# Altium footprint library RF_TRANSCEIVER_MODULES_AND_MODEMS.PcbLib: 1 footprints
Each footprint in its own frame and in the unit in brackets; x right, y up, seen from the top. Pads: shape width x height; smd on the part's side, far side on the other; paste and mask are expansions set on the pad; w line width, h text height; cw(c..) or ccw(c..) is an arc to the next point about the centre after c.
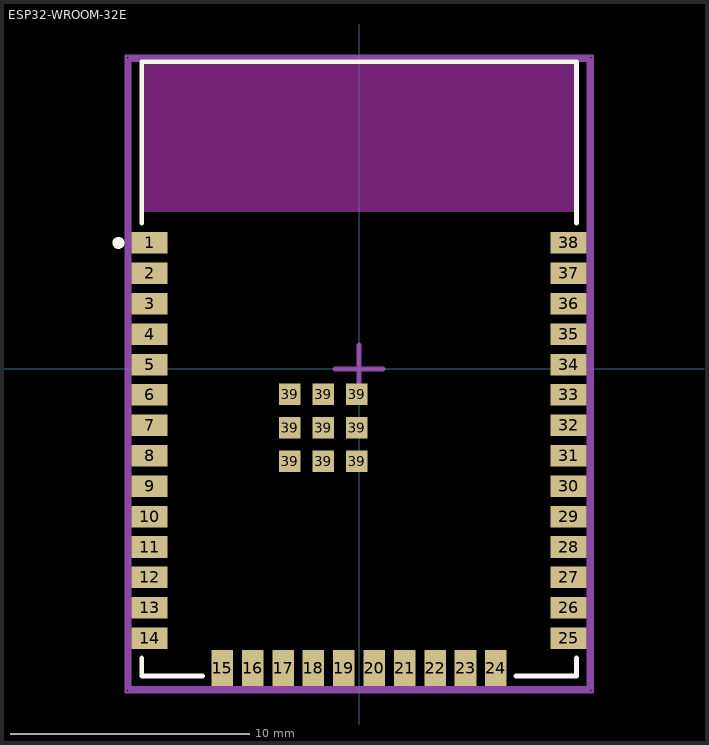
[diagram p0: the footprint, top view; thin cyan lines are the x and y axes]

## ESP32-WROOM-32E [mm] "Rx Txrx Mod Wifi Trace Ant SMD"
pads (47):
  rect 1.5x0.9 smd paste+0 mask+0: 1(-8.75,5.26) 2(-8.75,3.99) 3(-8.75,2.72) 4(-8.75,1.45) 5(-8.75,0.18) 6(-8.75,-1.09) 7(-8.75,-2.36) 8(-8.75,-3.63) 9(-8.75,-4.9) 10(-8.75,-6.17) 11(-8.75,-7.44) 12(-8.75,-8.71) 13(-8.75,-9.98) 14(-8.75,-11.25) 25(8.75,-11.25) 26(8.75,-9.98) 27(8.75,-8.71) 28(8.75,-7.44) 29(8.75,-6.17) 30(8.75,-4.9) 31(8.75,-3.63) 32(8.75,-2.36) 33(8.75,-1.09) 34(8.75,0.18) 35(8.75,1.45) 36(8.75,2.72) 37(8.75,3.99) 38(8.75,5.26)
  rect 0.9x1.5 smd paste+0 mask+0: 15(-5.715,-12.5) 16(-4.445,-12.5) 17(-3.175,-12.5) 18(-1.905,-12.5) 19(-0.635,-12.5) 20(0.635,-12.5) 21(1.905,-12.5) 22(3.175,-12.5) 23(4.445,-12.5) 24(5.715,-12.5)
  rect 0.9x0.9 smd paste+0 mask+0: 39(-2.9,-3.86) 39(-2.9,-2.46) 39(-2.9,-1.06) 39(-1.5,-3.86) 39(-1.5,-2.46) 39(-1.5,-1.06) 39(-0.1,-3.86) 39(-0.1,-2.46) 39(-0.1,-1.06)
Top Overlay:
  circle w0.25: c-10.05,5.26 r0.125
  lines w0.2: -9.075,-12.075 -9.075,-12.825 -6.54,-12.825 ; -9.075,6.085 -9.075,12.825 9.075,12.825 9.075,6.085 ; 6.54,-12.825 9.075,-12.825 9.075,-12.075
Keep-Out Layer:
  rectangle: -9,6.56 9,12.75
Top Assembly:
  lines w0.2: -9.6,-13.35 -9.6,12.925 9.6,12.925 9.6,-13.35 -9.6,-13.35
Top Component Center:
  lines w0.2: -1,0 1,0 ; 0,-1 0,1
Top Component Outline:
  lines w0.2: -9.6,-13.35 -9.6,12.925 9.6,12.925 9.6,-13.35 -9.6,-13.35
Top Courtyard:
  lines w0.1: -9.751,-13.503 9.751,-13.503 9.751,13.074 -9.751,13.074 -9.751,-13.503
Top Designator:
  text ".Designator" at -7.63,-0.521 h1.52
3D body "UNK_Espressif_Systems_ESP32-WROOM-32E_M113EH3200PH3Q0_eec.STEP": height 0.25, standoff 0, extent -9.6,-13.35 9.6,12.925